# EAGLE library part XR33183ESBTR (library Line_Drivers)
3V to 5.5V, 52Mbps, TSOT23 RS-485/RS-422 Receivers with ±15kV ESD Protection
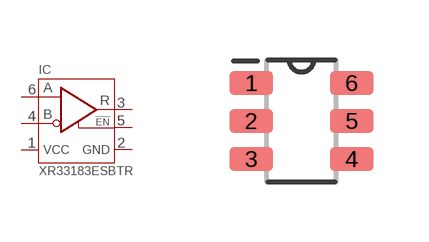
[diagram p5: symbol with the pads of SOT-23-6; footprint SOT-23-6]

Designator prefix IC

## XR33183ESBTR  [SOT-23-6]
1  VCC  pas
2  GND  pas
3  R  out
4  B  in
5  !EN  pas
6  A  in

## Footprint SOT-23-6 (pad centres in mm)
smd 1.1 x 0.6: 1 -1.256,0.95; 2 -1.256,0; 3 -1.256,-0.95; 4 1.256,-0.95; 5 1.256,0; 6 1.256,0.95